# Altium schematic symbol library TPS259261.Schlib: 1 symbol
Pins are listed as number, name and electrical type; pins without a type are passive.

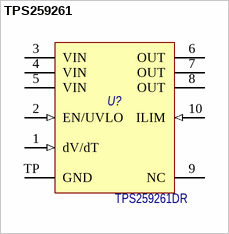
[diagram p0: symbol TPS259261]

## TPS259261
designator U?, comment Наименование: TPS259261DR  (hidden comment: TPS259261ВК)
Simple 5-V/12-V eFuse Protection Switches; Потребление, Вт: 0,001; Назначение: Simple 5-V/12-V eFuse Protection Switches; ComponentLink1Description: Datasheet; ComponentLink1URL: http://www.ti.com/lit/ds/symlink/tps25925.pdf
footprint VSON-10 (VSON, 10-Leads, Body 3,00x3,00mm, Pitch 0,50mm, Thermal Pad 1,65x2,40mm)
pins: 1 dV/dT (in), 2 EN/UVLO (in) "Enable pin. Pull High to enable the device. Pull Low to disable the device. This pin has an internal pull-down resistor of typically 400kohm when the device is disabled", 3 VIN (power) "Input pin.", 4 VIN (power) "Input pin.", 5 VIN (power) "Input pin.", 6 OUT (power) "Output pin.", 7 OUT (power) "Output pin.", 8 OUT (power) "Output pin.", 9 NC, 10 ILIM (in), TP GND (power)